# EAGLE library part HIH6030-021-001 (library HIH6030-021-001)
HIH6030-021-001 Honeywell HumidIconTM Digital Humidity/Temperature Sensors
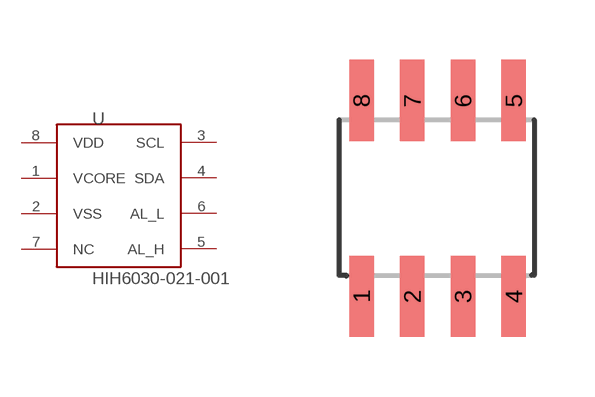
[diagram p0: symbol with the pads of HIH6030-021-001; footprint HIH6030-021-001]

Designator prefix -

## HIH6030-021-001SMD  [HIH6030-021-001]
1  VCORE  in
2  VSS  in
3  SCL
4  SDA
5  AL_H
6  AL_L
7  NC  nc
8  VDD  pwr

## Footprint HIH6030-021-001 (pad centres in mm)
smd 0.61 x 2.03: 1 0,-4.9; 2 1.27,-4.9; 3 2.54,-4.9; 4 3.81,-4.9; 5 3.81,0; 6 2.54,0; 7 1.27,0; 8 0,0